# EAGLE library part ATXMEGA_XX_D4 (library AniBike_Common_Library)
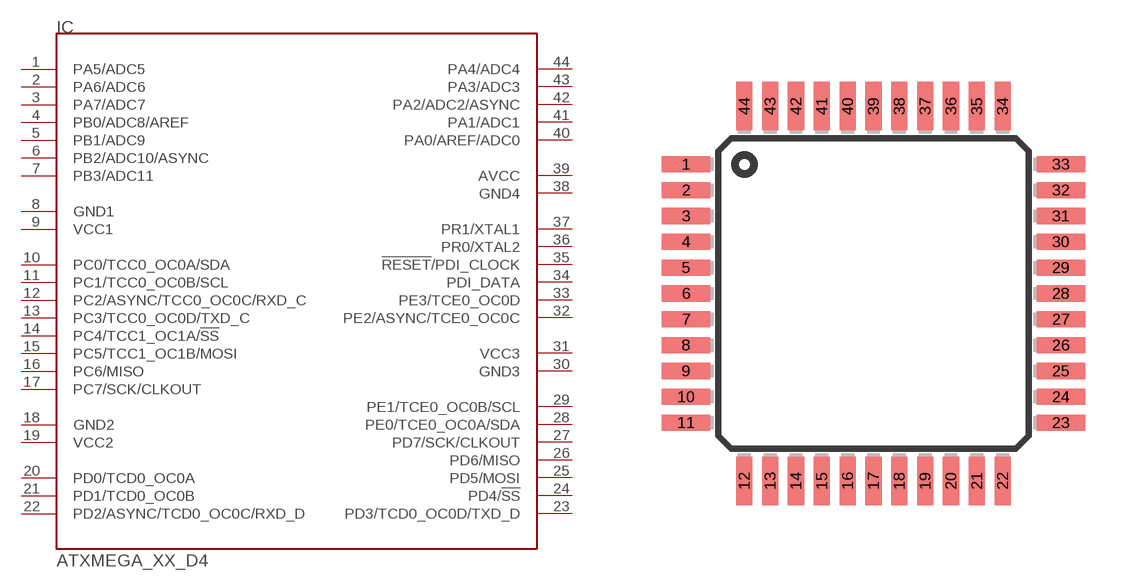
[diagram p11: symbol with the pads of TQFP44; footprint TQFP44]

Designator prefix IC

## ATXMEGA_XX_D4TQFP44  [TQFP44]
1  PA5/ADC5
2  PA6/ADC6
3  PA7/ADC7
4  PB0/ADC8/AREF
5  PB1/ADC9
6  PB2/ADC10/ASYNC
7  PB3/ADC11
8  GND1  sup
9  VCC1  sup
10  PC0/TCC0_OC0A/SDA
11  PC1/TCC0_OC0B/SCL
12  PC2/ASYNC/TCC0_OC0C/RXD_C
13  PC3/TCC0_OC0D/TXD_C
14  PC4/TCC1_OC1A/!SS!
15  PC5/TCC1_OC1B/MOSI
16  PC6/MISO
17  PC7/SCK/CLKOUT
18  GND2  sup
19  VCC2  sup
20  PD0/TCD0_OC0A
21  PD1/TCD0_OC0B
22  PD2/ASYNC/TCD0_OC0C/RXD_D
23  PD3/TCD0_OC0D/TXD_D
24  PD4/!SS!
25  PD5/MOSI
26  PD6/MISO
27  PD7/SCK/CLKOUT
28  PE0/TCE0_OC0A/SDA
29  PE1/TCE0_OC0B/SCL
30  GND3  sup
31  VCC3  sup
32  PE2/ASYNC/TCE0_OC0C
33  PE3/TCE0_OC0D
34  PDI_DATA
35  !RESET!/PDI_CLOCK
36  PR0/XTAL2
37  PR1/XTAL1
38  GND4  sup
39  AVCC  sup
40  PA0/AREF/ADC0
41  PA1/ADC1
42  PA2/ADC2/ASYNC
43  PA3/ADC3
44  PA4/ADC4

## Footprint TQFP44 (pad centres in mm)
Thin Plasic Quad Flat Package
smd 1.5 x 0.5: 1 -5.8,4; 2 -5.8,3.2; 3 -5.8,2.4; 4 -5.8,1.6; 5 -5.8,0.8; 6 -5.8,0; 7 -5.8,-0.8; 8 -5.8,-1.6; 9 -5.8,-2.4; 10 -5.8,-3.2; 11 -5.8,-4; 23 5.8,-4; 24 5.8,-3.2; 25 5.8,-2.4; 26 5.8,-1.6; 27 5.8,-0.8; 28 5.8,0; 29 5.8,0.8; 30 5.8,1.6; 31 5.8,2.4; 32 5.8,3.2; 33 5.8,4
smd 0.5 x 1.5: 12 -4,-5.8; 13 -3.2,-5.8; 14 -2.4,-5.8; 15 -1.6,-5.8; 16 -0.8,-5.8; 17 0,-5.8; 18 0.8,-5.8; 19 1.6,-5.8; 20 2.4,-5.8; 21 3.2,-5.8; 22 4,-5.8; 34 4,5.8; 35 3.2,5.8; 36 2.4,5.8; 37 1.6,5.8; 38 0.8,5.8; 39 0,5.8; 40 -0.8,5.8; 41 -1.6,5.8; 42 -2.4,5.8; 43 -3.2,5.8; 44 -4,5.8